# Altium footprint library wsn_common.PcbLib: 6 footprints
Each footprint in its own frame and in the unit in brackets; x right, y up, seen from the top. Pads: shape width x height; smd on the part's side, far side on the other; paste and mask are expansions set on the pad; w line width, h text height; cw(c..) or ccw(c..) is an arc to the next point about the centre after c.
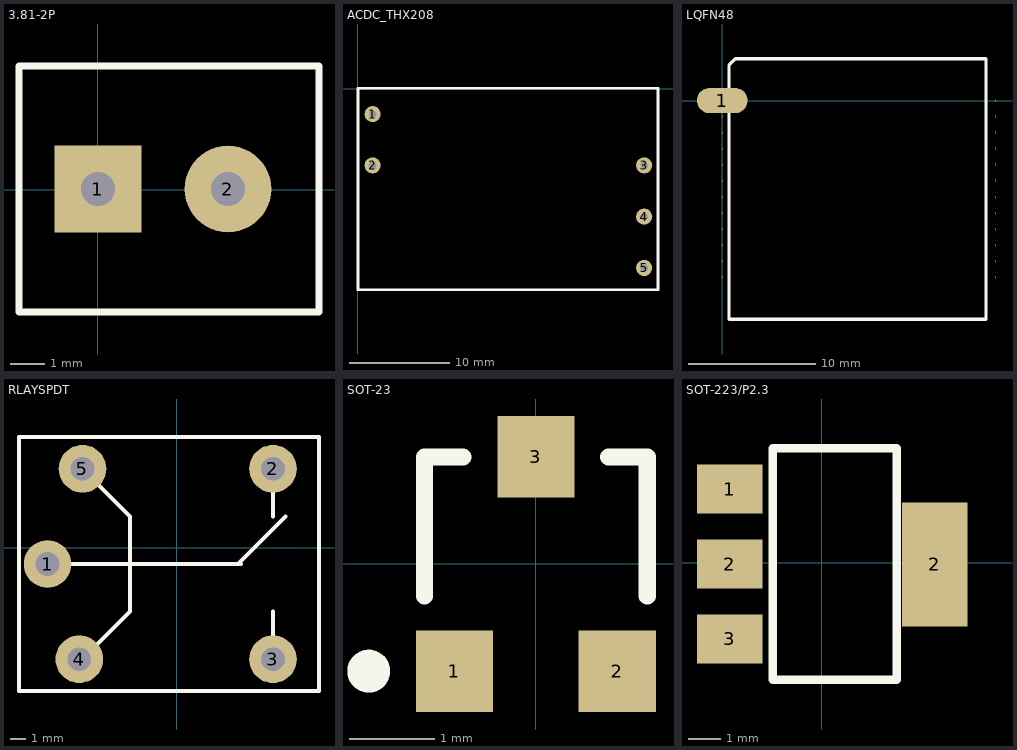
[diagram p0: the footprints below, top view; thin cyan lines are the x and y axes]

## 3.81-2P [mm] "price,0.85yuan(1-9pcs)"
height 2.65
pads (2):
  rect 2.54x2.54 hole 1: 1(0,0.025)
  round 2.54 hole 1: 2(3.81,0.025)
Top Overlay:
  lines w0.199: -2.311,-3.581 -2.311,3.632 6.477,3.632 6.477,-3.581 -2.311,-3.581

## ACDC_THX208 [mm]
pads (5):
  round 1.6 hole 0.762: 1(1.45,-2.52) 3(28.35,-7.6) 4(28.35,-12.68) 5(28.35,-17.76)
  round 1.6 hole 0.8: 2(1.45,-7.6)
Top Overlay:
  lines w0.254: 29.652,0.061 0,0.061 0,-19.939 29.718,-19.939 29.718,0.061

## LQFN48 [mm]
pads (48):
  oval 4x2 smd: 1(0,0)
  rect 0.017x0.2 smd: 2(0,-1.27) 3(0,-2.54) 4(0,-3.81) 5(0,-5.08) 6(0,-6.35) 7(0,-7.62) 8(0,-8.89) 9(0,-10.16) 10(0,-11.43) 11(0,-12.7) 12(0,-13.97) 25(21.59,-13.97) 26(21.59,-12.7) 27(21.59,-11.43) 28(21.59,-10.16) 29(21.59,-8.89) 30(21.59,-7.62) 31(21.59,-6.35) 32(21.59,-5.08) 33(21.59,-3.81) 34(21.59,-2.54) 35(21.59,-1.27) 36(21.59,0)
  rect 0.2x0.017 smd: 13(3.81,-17.78) 14(5.08,-17.78) 15(6.35,-17.78) 16(7.62,-17.78) 17(8.89,-17.78) 18(10.16,-17.78) 19(11.43,-17.78) 20(12.7,-17.78) 21(13.97,-17.78) 22(15.24,-17.78) 23(16.51,-17.78) 24(17.78,-17.78) 37(17.78,3.81) 38(16.51,3.81) 39(15.24,3.81) 40(13.97,3.81) 41(12.7,3.81) 42(11.43,3.81) 43(10.16,3.81) 44(8.89,3.81) 45(7.62,3.81) 46(6.35,3.81) 47(5.08,3.81) 48(3.81,3.81)
Top Overlay:
  lines w0.254: 0.516,-17.264 20.828,-17.264 20.828,3.294 1.033,3.294 0.516,2.777 0.516,-17.264

## RLAYSPDT [mm]
pads (5):
  round 3 hole 1.5: 1(-8.128,-1.016) 2(6.072,4.984) 3(6.072,-7.016) 4(-6.128,-7.016) 5(-5.928,4.984)
Top Overlay:
  lines w0.254: -7.928,-1.016 4.072,-1.016 ; -5.928,-7.016 -2.928,-4.016 -2.928,1.984 -5.928,4.984 ; 3.872,-1.016 6.872,1.984 ; 6.072,-7.016 6.072,-4.016 ; 6.072,1.984 6.072,4.984 ; -9.928,-9.016 -9.928,6.984 8.972,6.984 8.972,-9.016 -9.928,-9.016

## SOT-23 [mm] "SOT-23; 3 Leads; Body 3.0 x 2.6 mm, inc. leads (LxW max)"
height 1.1
pads (3):
  rect 0.9x0.95 smd: 1(-0.95,-1.25) 2(0.95,-1.25) 3(0,1.25)
Top Overlay:
  circle w0.25: c-1.95,-1.25 r0.125
  lines w0.2: -1.3,-0.375 -1.3,1.25 -0.85,1.25 ; 0.85,1.25 1.3,1.25 1.3,-0.375

## SOT-223/P2.3 [mil]
pads (4):
  rect 79x59 smd: 1(-111,89.1) 2(-111,-1.45) 3(-111,-92)
  rect 79x150 smd: 2(137,-1.9)
Top Overlay:
  lines w10: -59,-141.45 91,-141.45 91,138.55 -59,138.55 -59,-141.45